# Altium schematic symbol library CapstoneSchLib.SchLib: 12 symbols
Pins are listed as number, name and electrical type; pins without a type are passive.

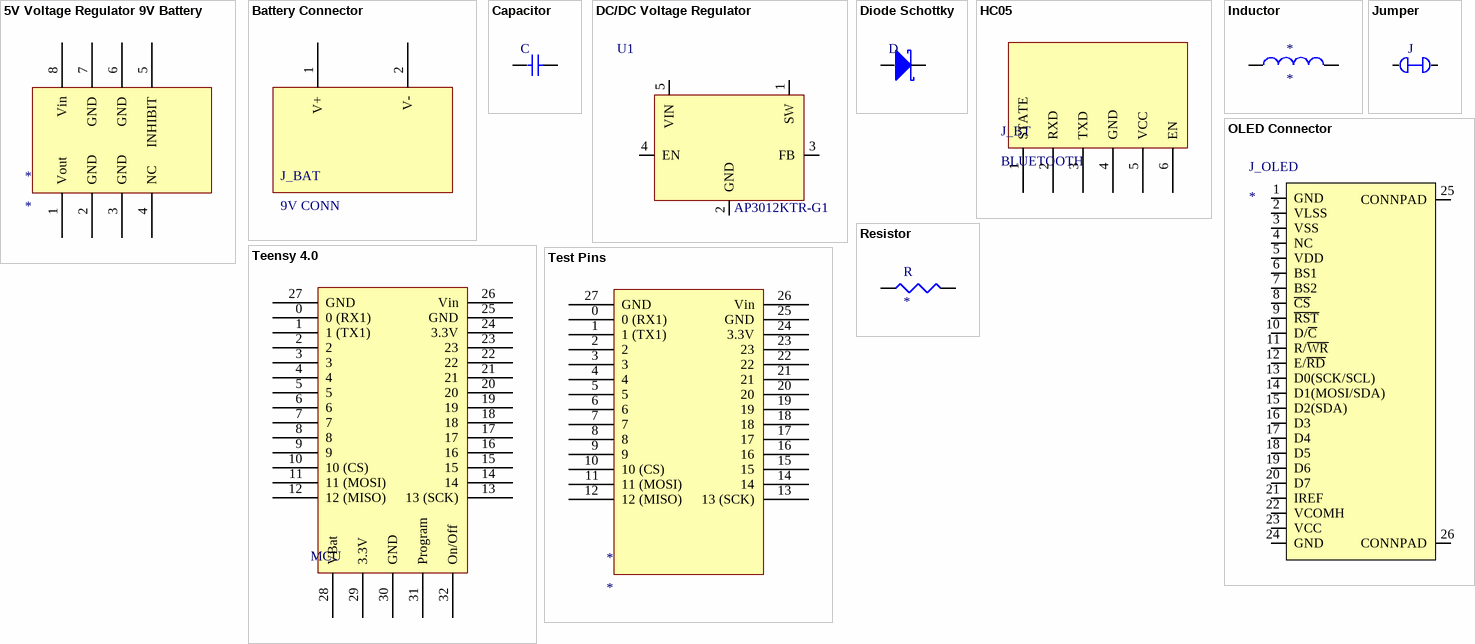
[diagram p0: symbols 5V Voltage Regulator 9V Battery to Test Pins]

## 5V Voltage Regulator 9V Battery
designator *
pins: 1 Vout, 2 GND, 3 GND, 4 NC, 5 INHIBIT, 6  GND, 7 GND, 8 Vin

## Battery Connector
designator J_BAT, comment 9V CONN
footprint 2POS_TERMINAL
pins: 1 V+, 2 V-

## Capacitor
designator C
pins: 1, 2

## DC/DC Voltage Regulator
designator U1  Part#: AP3012KTR-G1
Integrated Circuits (ICs) / PMIC - Voltage Regulators - DC DC Switching Regulators
pins: 1 SW, 2 GND, 3 FB, 4 EN, 5 VIN

## Diode Schottky
designator D
pins: 1, 2

## HC05
designator J_BT, comment BLUETOOTH
footprint HC05
pins: 1 STATE, 2 RXD, 3 TXD, 4 GND, 5 VCC, 6 EN

## Inductor
designator *
pins: 1, 2

## Jumper
designator J
pins: 1, 2

## OLED Connector
designator J_OLED
24 Position, 0.5mm Pitch, Gold, FCC FPC ZIF Connector
pins: 1 GND, 2 VLSS, 3 VSS, 4 NC, 5 VDD, 6 BS1, 7 BS2, 8 ~{CS}, 9 ~{RST}, 10 D/~{C}, 11 R/~{WR}, 12 E/~{RD}, 13 D0(SCK/SCL), 14 D1(MOSI/SDA), 15 D2(SDA), 16 D3, 17 D4, 18 D5, 19 D6, 20 D7, 21 IREF, 22 VCOMH, 23 VCC, 24 GND, 25 CONNPAD, 26 CONNPAD

## Resistor
designator R
footprint Model Name (Footprint not found)
pins: 1, 2

## Teensy 4.0
designator MCU
footprint TEENSY 4.0
pins: 0 0 (RX1), 1 1 (TX1), 2, 3, 4, 5, 6, 7, 8, 9, 10 10 (CS), 11 11 (MOSI), 12 12 (MISO), 13 13 (SCK), 14, 15, 16, 17, 18, 19, 20, 21, 22, 23, 24 3.3V, 25 GND, 26 Vin, 27 GND, 28 VBat, 29 3.3V, 30 GND, 31 Program, 32 On/Off

## Test Pins
designator *
footprint TESTPINS
pins: 0 0 (RX1), 1 1 (TX1), 2, 3, 4, 5, 6, 7, 8, 9, 10 10 (CS), 11 11 (MOSI), 12 12 (MISO), 13 13 (SCK), 14, 15, 16, 17, 18, 19, 20, 21, 22, 23, 24 3.3V, 25 GND, 26 Vin, 27 GND